# Altium schematic symbol library IC.SchLib: 18 symbols
Pins are listed as number, name and electrical type; pins without a type are passive.

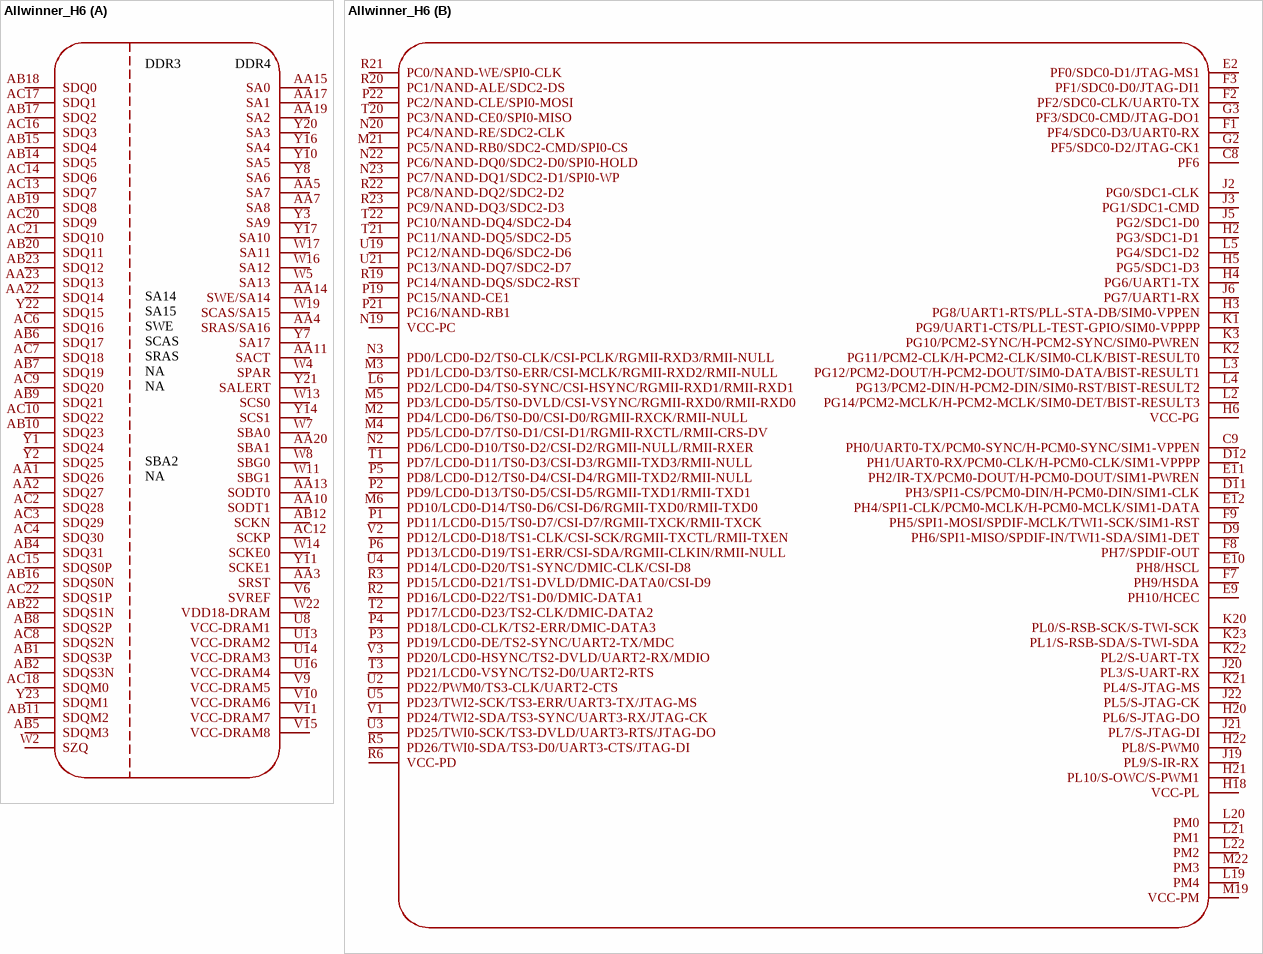
[diagram p0: symbol Allwinner_H6]

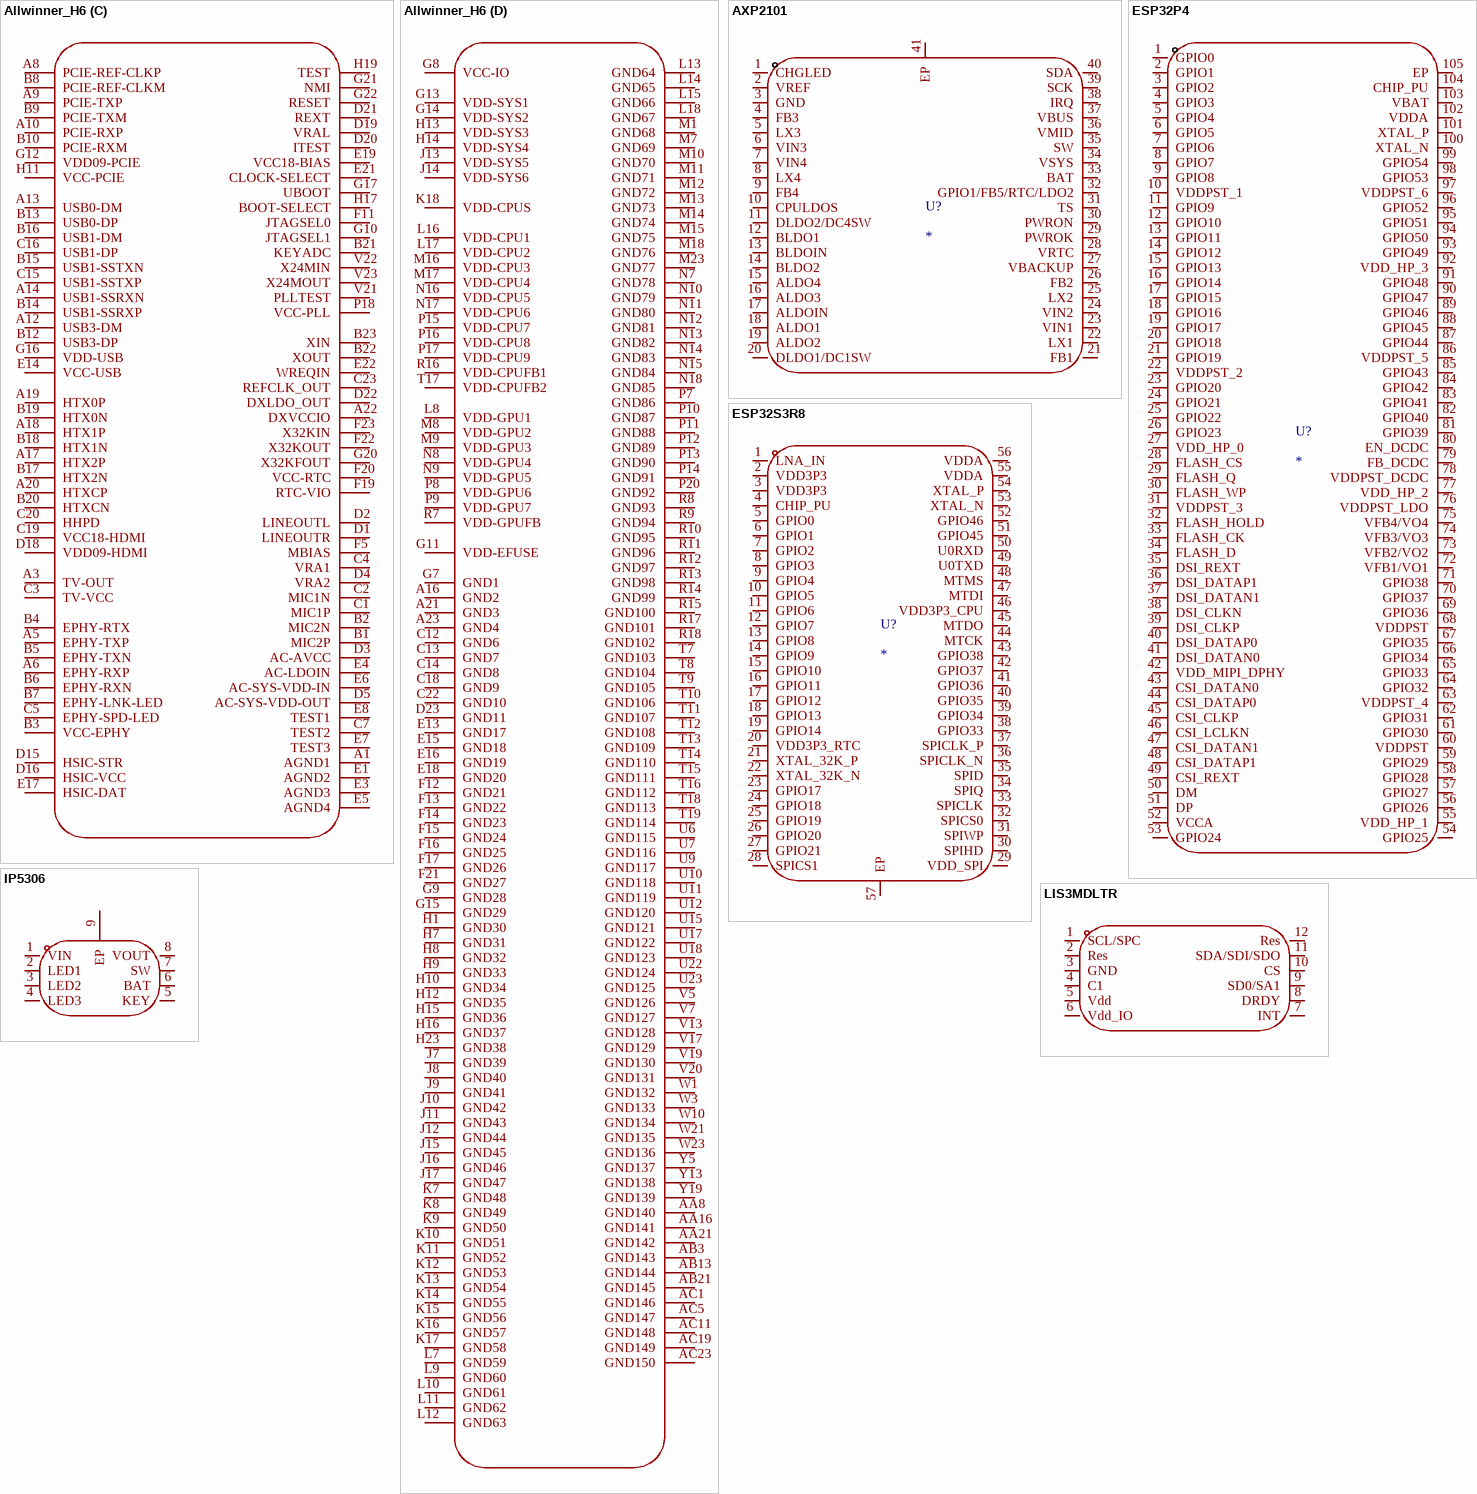
[diagram p1: symbols Allwinner_H6 to LIS3MDLTR]

## Allwinner_H6
designator U??
Symbol: Allwinner_H6; Add into BOM: yes; Device: Allwinner_H6; Convert to PCB: yes
footprint BGA451_ALLWINNER_H6
part A pins: AA1 SDQ26, AA2 SDQ27, AA3 SRST, AA4 SRAS/SA16, AA5 SA7, AA7 SA8, AA10 SODT1, AA11 SACT, AA13 SODT0, AA14 SWE/SA14, AA15 SA0, AA17 SA1, AA19 SA2, AA20 SBA1, AA22 SDQ14, AA23 SDQ13, AB1 SDQS3P, AB2 SDQS3N, AB4 SDQ31, AB5 SDQM3, AB6 SDQ17, AB7 SDQ19, AB8 SDQS2P, AB9 SDQ21, AB10 SDQ23, AB11 SDQM2, AB12 SCKN, AB14 SDQ5, AB15 SDQ4, AB16 SDQS0N, AB17 SDQ2, AB18 SDQ0, AB19 SDQ8, AB20 SDQ11, AB22 SDQS1N, AB23 SDQ12, AC2 SDQ28, AC3 SDQ29, AC4 SDQ30, AC6 SDQ16, AC7 SDQ18, AC8 SDQS2N, AC9 SDQ20, AC10 SDQ22, AC12 SCKP, AC13 SDQ7, AC14 SDQ6, AC15 SDQS0P, AC16 SDQ3, AC17 SDQ1, AC18 SDQM0, AC20 SDQ9, AC21 SDQ10, AC22 SDQS1P, U8 VCC-DRAM1, U13 VCC-DRAM2, U14 VCC-DRAM3, U16 VCC-DRAM4, V6 SVREF, V9 VCC-DRAM5, V10 VCC-DRAM6, V11 VCC-DRAM7, V15 VCC-DRAM8, W2 SZQ, W4 SPAR, W5 SA13, W7 SBA0, W8 SBG0, W11 SBG1, W13 SCS0, W14 SCKE0, W16 SA12, W17 SA11, W19 SCAS/SA15, W22 VDD18-DRAM, Y1 SDQ24, Y2 SDQ25, Y3 SA9, Y7 SA17, Y8 SA6, Y10 SA5, Y11 SCKE1, Y14 SCS1, Y16 SA4, Y17 SA10, Y20 SA3, Y21 SALERT, Y22 SDQ15, Y23 SDQM1
part B pins: C8 PF6, C9 PH0/UART0-TX/PCM0-SYNC/H-PCM0-SYNC/SIM1-VPPEN, D9 PH6/SPI1-MISO/SPDIF-IN/TWI1-SDA/SIM1-DET, D11 PH3/SPI1-CS/PCM0-DIN/H-PCM0-DIN/SIM1-CLK, D12 PH1/UART0-RX/PCM0-CLK/H-PCM0-CLK/SIM1-VPPPP, E2 PF0/SDC0-D1/JTAG-MS1, E9 PH10/HCEC, E10 PH8/HSCL, E11 PH2/IR-TX/PCM0-DOUT/H-PCM0-DOUT/SIM1-PWREN, E12 PH4/SPI1-CLK/PCM0-MCLK/H-PCM0-MCLK/SIM1-DATA, F1 PF4/SDC0-D3/UART0-RX, F2 PF2/SDC0-CLK/UART0-TX, F3 PF1/SDC0-D0/JTAG-DI1, F7 PH9/HSDA, F8 PH7/SPDIF-OUT, F9 PH5/SPI1-MOSI/SPDIF-MCLK/TWI1-SCK/SIM1-RST, G2 PF5/SDC0-D2/JTAG-CK1, G3 PF3/SDC0-CMD/JTAG-DO1, H2 PG3/SDC1-D1, H3 PG8/UART1-RTS/PLL-STA-DB/SIM0-VPPEN, H4 PG6/UART1-TX, H5 PG5/SDC1-D3, H6 VCC-PG, H18 VCC-PL, H20 PL6/S-JTAG-DO, H21 PL10/S-OWC/S-PWM1, H22 PL8/S-PWM0, J2 PG0/SDC1-CLK, J3 PG1/SDC1-CMD, J5 PG2/SDC1-D0, J6 PG7/UART1-RX, J19 PL9/S-IR-RX, J20 PL3/S-UART-RX, J21 PL7/S-JTAG-DI, J22 PL5/S-JTAG-CK, K1 PG9/UART1-CTS/PLL-TEST-GPIO/SIM0-VPPPP, K2 PG11/PCM2-CLK/H-PCM2-CLK/SIM0-CLK/BIST-RESULT0, K3 PG10/PCM2-SYNC/H-PCM2-SYNC/SIM0-PWREN, K20 PL0/S-RSB-SCK/S-TWI-SCK, K21 PL4/S-JTAG-MS, K22 PL2/S-UART-TX, K23 PL1/S-RSB-SDA/S-TWI-SDA, L2 PG14/PCM2-MCLK/H-PCM2-MCLK/SIM0-DET/BIST-RESULT3, L3 PG12/PCM2-DOUT/H-PCM2-DOUT/SIM0-DATA/BIST-RESULT1, L4 PG13/PCM2-DIN/H-PCM2-DIN/SIM0-RST/BIST-RESULT2, L5 PG4/SDC1-D2, L6 PD2/LCD0-D4/TS0-SYNC/CSI-HSYNC/RGMII-RXD1/RMII-RXD1, L19 PM4, L20 PM0, L21 PM1, L22 PM2, M2 PD4/LCD0-D6/TS0-D0/CSI-D0/RGMII-RXCK/RMII-NULL, M3 PD1/LCD0-D3/TS0-ERR/CSI-MCLK/RGMII-RXD2/RMII-NULL, M4 PD5/LCD0-D7/TS0-D1/CSI-D1/RGMII-RXCTL/RMII-CRS-DV, M5 PD3/LCD0-D5/TS0-DVLD/CSI-VSYNC/RGMII-RXD0/RMII-RXD0, M6 PD10/LCD0-D14/TS0-D6/CSI-D6/RGMII-TXD0/RMII-TXD0, M19 VCC-PM, M21 PC5/NAND-RB0/SDC2-CMD/SPI0-CS, M22 PM3, N2 PD6/LCD0-D10/TS0-D2/CSI-D2/RGMII-NULL/RMII-RXER, N3 PD0/LCD0-D2/TS0-CLK/CSI-PCLK/RGMII-RXD3/RMII-NULL, N19 VCC-PC, N20 PC4/NAND-RE/SDC2-CLK, N22 PC6/NAND-DQ0/SDC2-D0/SPI0-HOLD, N23 PC7/NAND-DQ1/SDC2-D1/SPI0-WP, P1 PD11/LCD0-D15/TS0-D7/CSI-D7/RGMII-TXCK/RMII-TXCK, P2 PD9/LCD0-D13/TS0-D5/CSI-D5/RGMII-TXD1/RMII-TXD1, P3 PD19/LCD0-DE/TS2-SYNC/UART2-TX/MDC, P4 PD18/LCD0-CLK/TS2-ERR/DMIC-DATA3, P5 PD8/LCD0-D12/TS0-D4/CSI-D4/RGMII-TXD2/RMII-NULL, P6 PD13/LCD0-D19/TS1-ERR/CSI-SDA/RGMII-CLKIN/RMII-NULL, P19 PC15/NAND-CE1, P21 PC16/NAND-RB1, P22 PC2/NAND-CLE/SPI0-MOSI, R2 PD16/LCD0-D22/TS1-D0/DMIC-DATA1, R3 PD15/LCD0-D21/TS1-DVLD/DMIC-DATA0/CSI-D9, R5 PD26/TWI0-SDA/TS3-D0/UART3-CTS/JTAG-DI, R6 VCC-PD, R19 PC14/NAND-DQS/SDC2-RST, R20 PC1/NAND-ALE/SDC2-DS, R21 PC0/NAND-WE/SPI0-CLK, R22 PC8/NAND-DQ2/SDC2-D2, R23 PC9/NAND-DQ3/SDC2-D3, T1 PD7/LCD0-D11/TS0-D3/CSI-D3/RGMII-TXD3/RMII-NULL, T2 PD17/LCD0-D23/TS2-CLK/DMIC-DATA2, T3 PD21/LCD0-VSYNC/TS2-D0/UART2-RTS, T20 PC3/NAND-CE0/SPI0-MISO, T21 PC11/NAND-DQ5/SDC2-D5, T22 PC10/NAND-DQ4/SDC2-D4, U2 PD22/PWM0/TS3-CLK/UART2-CTS, U3 PD25/TWI0-SCK/TS3-DVLD/UART3-RTS/JTAG-DO, U4 PD14/LCD0-D20/TS1-SYNC/DMIC-CLK/CSI-D8, U5 PD23/TWI2-SCK/TS3-ERR/UART3-TX/JTAG-MS, U19 PC12/NAND-DQ6/SDC2-D6, U21 PC13/NAND-DQ7/SDC2-D7, V1 PD24/TWI2-SDA/TS3-SYNC/UART3-RX/JTAG-CK, V2 PD12/LCD0-D18/TS1-CLK/CSI-SCK/RGMII-TXCTL/RMII-TXEN, V3 PD20/LCD0-HSYNC/TS2-DVLD/UART2-RX/MDIO
part C pins: A1 AGND1, A3 TV-OUT, A5 EPHY-TXP, A6 EPHY-RXP, A8 PCIE-REF-CLKP, A9 PCIE-TXP, A10 PCIE-RXP, A12 USB3-DM, A13 USB0-DM, A14 USB1-SSRXN, A17 HTX2P, A18 HTX1P, A19 HTX0P, A20 HTXCP, A22 DXVCCIO, B1 MIC2P, B2 MIC2N, B3 VCC-EPHY, B4 EPHY-RTX, B5 EPHY-TXN, B6 EPHY-RXN, B7 EPHY-LNK-LED, B8 PCIE-REF-CLKM, B9 PCIE-TXM, B10 PCIE-RXM, B12 USB3-DP, B13 USB0-DP, B14 USB1-SSRXP, B15 USB1-SSTXN, B16 USB1-DM, B17 HTX2N, B18 HTX1N, B19 HTX0N, B20 HTXCN, B21 KEYADC, B22 XOUT, B23 XIN, C1 MIC1P, C2 MIC1N, C3 TV-VCC, C4 VRA1, C5 EPHY-SPD-LED, C7 TEST2, C15 USB1-SSTXP, C16 USB1-DP, C19 VCC18-HDMI, C20 HHPD, C23 REFCLK_OUT, D1 LINEOUTR, D2 LINEOUTL, D3 AC-AVCC, D4 VRA2, D5 AC-SYS-VDD-OUT, D15 HSIC-STR, D16 HSIC-VCC, D18 VDD09-HDMI, D19 VRAL, D20 ITEST, D21 REXT, D22 DXLDO_OUT, E1 AGND2, E3 AGND3, E4 AC-LDOIN, E5 AGND4, E6 AC-SYS-VDD-IN, E7 TEST3, E8 TEST1, E14 VCC-USB, E17 HSIC-DAT, E19 VCC18-BIAS, E21 CLOCK-SELECT, E22 WREQIN, F5 MBIAS, F11 JTAGSEL0, F19 RTC-VIO, F20 VCC-RTC, F22 X32KOUT, F23 X32KIN, G10 JTAGSEL1, G12 VDD09-PCIE, G16 VDD-USB, G17 UBOOT, G20 X32KFOUT, G21 NMI, G22 RESET, H11 VCC-PCIE, H17 BOOT-SELECT, H19 TEST, P18 VCC-PLL, V21 PLLTEST, V22 X24MIN, V23 X24MOUT
part D pins: A16 GND2, A21 GND3, A23 GND4, AA8 GND140, AA16 GND141, AA21 GND142, AB3 GND143, AB13 GND144, AB21 GND145, AC1 GND146, AC5 GND147, AC11 GND148, AC19 GND149, AC23 GND150, C12 GND6, C13 GND7, C14 GND8, C18 GND9, C22 GND10, D23 GND11, E13 GND17, E15 GND18, E16 GND19, E18 GND20, F12 GND21, F13 GND22, F14 GND23, F15 GND24, F16 GND25, F17 GND26, F21 GND27, G7 GND1, G8 VCC-IO, G9 GND28, G11 VDD-EFUSE, G13 VDD-SYS1, G14 VDD-SYS2, G15 GND29, H1 GND30, H7 GND31, H8 GND32, H9 GND33, H10 GND34, H12 GND35, H13 VDD-SYS3, H14 VDD-SYS4, H15 GND36, H16 GND37, H23 GND38, J7 GND39, J8 GND40, J9 GND41, J10 GND42, J11 GND43, J12 GND44, J13 VDD-SYS5, J14 VDD-SYS6, J15 GND45, J16 GND46, J17 GND47, K7 GND48, K8 GND49, K9 GND50, K10 GND51, K11 GND52, K12 GND53, K13 GND54, K14 GND55, K15 GND56, K16 GND57, K17 GND58, K18 VDD-CPUS, L7 GND59, L8 VDD-GPU1, L9 GND60, L10 GND61, L11 GND62, L12 GND63, L13 GND64, L14 GND65, L15 GND66, L16 VDD-CPU1, L17 VDD-CPU2, L18 GND67, M1 GND68, M7 GND69, M8 VDD-GPU2, M9 VDD-GPU3, M10 GND70, M11 GND71, M12 GND72, M13 GND73, M14 GND74, M15 GND75, M16 VDD-CPU3, M17 VDD-CPU4, M18 GND76, M23 GND77, N7 GND78, N8 VDD-GPU4, N9 VDD-GPU5, N10 GND79, N11 GND80, N12 GND81, N13 GND82, N14 GND83, N15 GND84, N16 VDD-CPU5, N17 VDD-CPU6, N18 GND85, P7 GND86, P8 VDD-GPU6, P9 VDD-GPU7, P10 GND87, P11 GND88, P12 GND89, P13 GND90, P14 GND91, P15 VDD-CPU7, P16 VDD-CPU8, P17 VDD-CPU9, P20 GND92, R7 VDD-GPUFB, R8 GND93, R9 GND94, R10 GND95, R11 GND96, R12 GND97, R13 GND98, R14 GND99, R15 GND100, R16 VDD-CPUFB1, R17 GND101, R18 GND102, T7 GND103, T8 GND104, T9 GND105, T10 GND106, T11 GND107, T12 GND108, T13 GND109, T14 GND110, T15 GND111, T16 GND112, T17 VDD-CPUFB2, T18 GND113, T19 GND114, U6 GND115, U7 GND116, U9 GND117, U10 GND118, U11 GND119, U12 GND120, U15 GND121, U17 GND122, U18 GND123, U22 GND124, U23 GND125, V5 GND126, V7 GND127, V13 GND128, V17 GND129, V19 GND130, V20 GND131, W1 GND132, W3 GND133, W10 GND134, W21 GND135, W23 GND136, Y5 GND137, Y13 GND138, Y19 GND139
part A text: DDR3; DDR4; SA14; SA15; SWE; SCAS; SRAS; NA; SBA2

## AXP2101
designator U?
footprint QFN-40_L5.0-W5.0-P0.40-TL-EP3.4
pins: 1 CHGLED, 2 VREF, 3 GND, 4 FB3, 5 LX3, 6 VIN3, 7 VIN4, 8 LX4, 9 FB4, 10 CPULDOS, 11 DLDO2/DC4SW, 12 BLDO1, 13 BLDOIN, 14 BLDO2, 15 ALDO4, 16 ALDO3, 17 ALDOIN, 18 ALDO1, 19 ALDO2, 20 DLDO1/DC1SW, 21 FB1, 22 LX1, 23 VIN1, 24 VIN2, 25 LX2, 26 FB2, 27 VBACKUP, 28 VRTC, 29 PWROK, 30 PWRON, 31 TS, 32 GPIO1/FB5/RTC/LDO2, 33 BAT, 34 VSYS, 35 SW, 36 VMID, 37 VBUS, 38 IRQ, 39 SCK, 40 SDA, 41 EP

## ESP32P4
designator U?
footprint QFN-104_L10.0-W10.0-P0.35-TL-EP7.5
pins: 1 GPIO0, 2 GPIO1, 3 GPIO2, 4 GPIO3, 5 GPIO4, 6 GPIO5, 7 GPIO6, 8 GPIO7, 9 GPIO8, 10 VDDPST_1, 11 GPIO9, 12 GPIO10, 13 GPIO11, 14 GPIO12, 15 GPIO13, 16 GPIO14, 17 GPIO15, 18 GPIO16, 19 GPIO17, 20 GPIO18, 21 GPIO19, 22 VDDPST_2, 23 GPIO20, 24 GPIO21, 25 GPIO22, 26 GPIO23, 27 VDD_HP_0, 28 FLASH_CS, 29 FLASH_Q, 30 FLASH_WP, 31 VDDPST_3, 32 FLASH_HOLD, 33 FLASH_CK, 34 FLASH_D, 35 DSI_REXT, 36 DSI_DATAP1, 37 DSI_DATAN1, 38 DSI_CLKN, 39 DSI_CLKP, 40 DSI_DATAP0, 41 DSI_DATAN0, 42 VDD_MIPI_DPHY, 43 CSI_DATAN0, 44 CSI_DATAP0, 45 CSI_CLKP, 46 CSI_LCLKN, 47 CSI_DATAN1, 48 CSI_DATAP1, 49 CSI_REXT, 50 DM, 51 DP, 52 VCCA, 53 GPIO24, 54 GPIO25, 55 VDD_HP_1, 56 GPIO26, 57 GPIO27, 58 GPIO28, 59 GPIO29, 60 VDDPST, 61 GPIO30, 62 GPIO31, 63 VDDPST_4, 64 GPIO32, 65 GPIO33, 66 GPIO34, 67 GPIO35, 68 VDDPST, 69 GPIO36, 70 GPIO37, 71 GPIO38, 72 VFB1/VO1, 73 VFB2/VO2, 74 VFB3/VO3, 75 VFB4/VO4, 76 VDDPST_LDO, 77 VDD_HP_2, 78 VDDPST_DCDC, 79 FB_DCDC, 80 EN_DCDC, 81 GPIO39, 82 GPIO40, 83 GPIO41, 84 GPIO42, 85 GPIO43, 86 VDDPST_5, 87 GPIO44, 88 GPIO45, 89 GPIO46, 90 GPIO47, 91 GPIO48, 92 VDD_HP_3, 93 GPIO49, 94 GPIO50, 95 GPIO51, 96 GPIO52, 97 VDDPST_6, 98 GPIO53, 99 GPIO54, 100 XTAL_N, 101 XTAL_P, 102 VDDA, 103 VBAT, 104 CHIP_PU, 105 EP

## ESP32S3R8
designator U?
footprint QFN-56_L7.0-W7.0-P0.40-TL-EP4.0
pins: 1 LNA_IN, 2 VDD3P3, 3 VDD3P3, 4 CHIP_PU, 5 GPIO0, 6 GPIO1, 7 GPIO2, 8 GPIO3, 9 GPIO4, 10 GPIO5, 11 GPIO6, 12 GPIO7, 13 GPIO8, 14 GPIO9, 15 GPIO10, 16 GPIO11, 17 GPIO12, 18 GPIO13, 19 GPIO14, 20 VDD3P3_RTC, 21 XTAL_32K_P, 22 XTAL_32K_N, 23 GPIO17, 24 GPIO18, 25 GPIO19, 26 GPIO20, 27 GPIO21, 28 SPICS1, 29 VDD_SPI, 30 SPIHD, 31 SPIWP, 32 SPICS0, 33 SPICLK, 34 SPIQ, 35 SPID, 36 SPICLK_N, 37 SPICLK_P, 38 GPIO33, 39 GPIO34, 40 GPIO35, 41 GPIO36, 42 GPIO37, 43 GPIO38, 44 MTCK, 45 MTDO, 46 VDD3P3_CPU, 47 MTDI, 48 MTMS, 49 U0TXD, 50 U0RXD, 51 GPIO45, 52 GPIO46, 53 XTAL_N, 54 XTAL_P, 55 VDDA, 56 VDDA, 57 EP

## IP5306
designator U??  (value not drawn)
Manufacturer: INJOINIC(英集芯); Add into BOM: yes; Symbol: IP5306; Device: IP5306; LCSC Part Name: IP5306; Supplier Part: C181692; Manufacturer Part: IP5306; Supplier Footprint: ESOP-8; JLCPCB Part Class: Extended Part; Datasheet: https://atta.szlcsc.com/upload/public/pdf/source/20190627/C384572_9925B3DDC4041BC6108E5AB46A2A0AB1.pdf; Supplier: LCSC; Convert to PCB: yes
footprint ESOP-8_L4.9-W3.9-P1.27-LS6.0-BL-EP
pins: 1 VIN, 2 LED1, 3 LED2, 4 LED3, 5 KEY, 6 BAT, 7 SW, 8 VOUT, 9 EP

## LIS3MDLTR
designator U??  (value not drawn)
Manufacturer: ST(意法半导体); Add into BOM: yes; Symbol: LIS3MDLTR; Device: LIS3MDLTR; LCSC Part Name: 三轴数字磁传感器 停产; Supplier Part: C478483; Manufacturer Part: LIS3MDLTR; Supplier Footprint: LGA-12(2x2); JLCPCB Part Class: Extended Part; Datasheet: https://atta.szlcsc.com/upload/public/pdf/source/20191231/C478483_325C07DDDEF2D93C2E541FB70AD6AC5C.pdf; Supplier: LCSC; Convert to PCB: yes
footprint LGA-12_L2.0-W2.0-P0.50-BL
pins: 1 SCL/SPC, 2 Res, 3 GND, 4 C1, 5 Vdd, 6 Vdd_IO, 7 INT, 8 DRDY, 9 SD0/SA1, 10 CS, 11 SDA/SDI/SDO, 12 Res

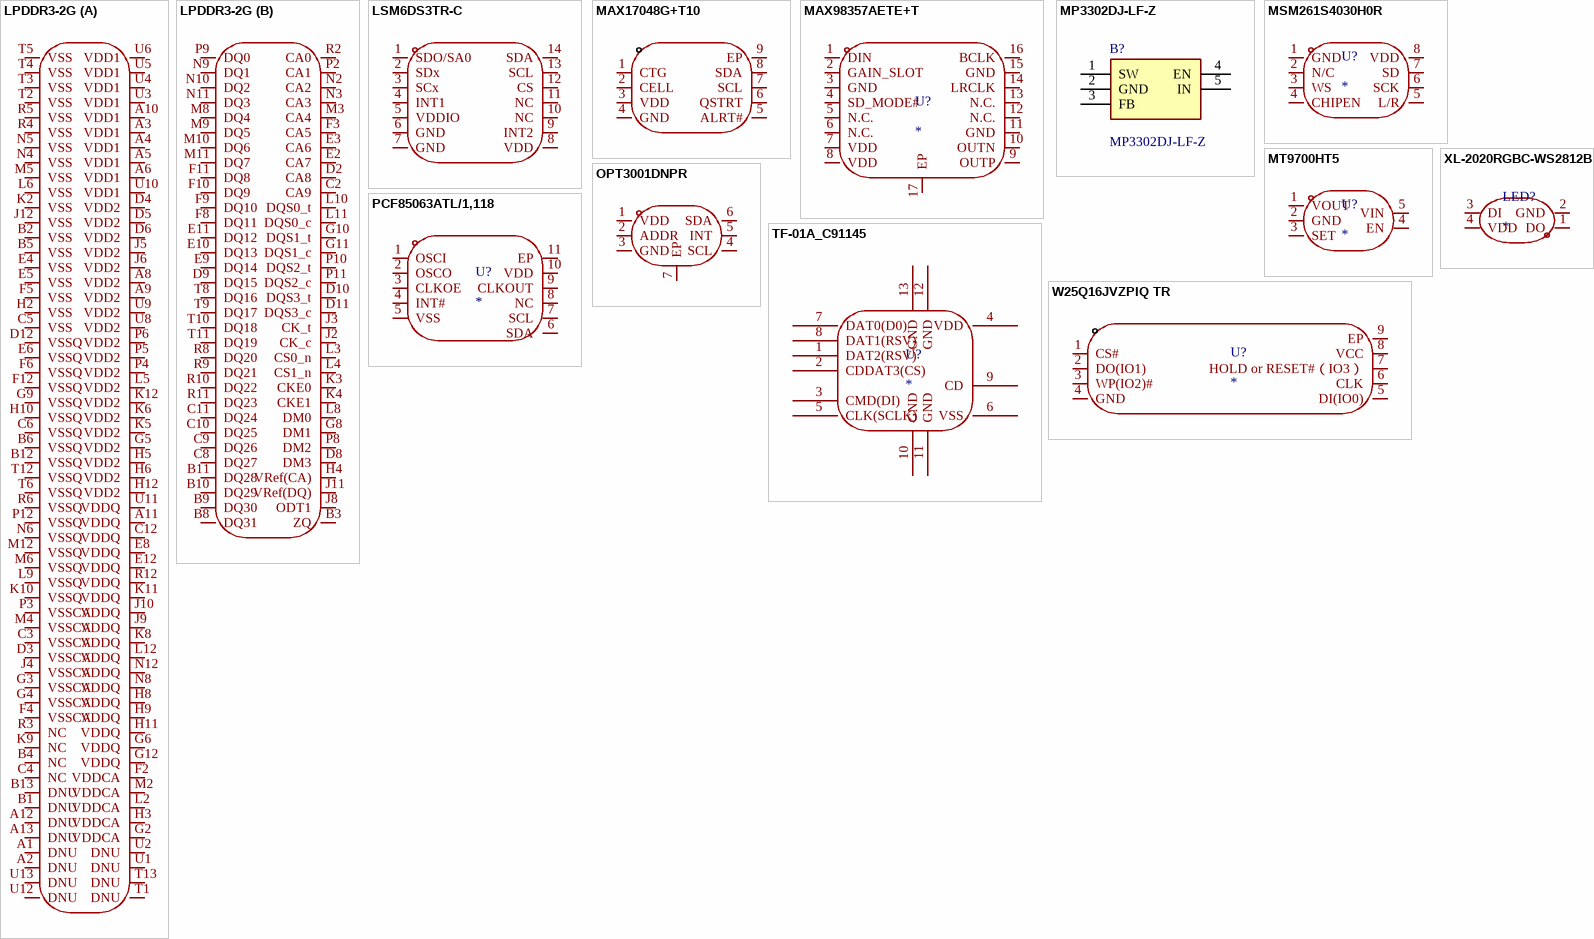
[diagram p2: symbols LPDDR3-2G to XL-2020RGBC-WS2812B]

## LPDDR3-2G
designator U??
Manufacturer: SAMSUNG(三星半导体); Symbol: K4E6E304EC-EGCG; Device: LPDDR3-2G; Add into BOM: yes; LCSC Part Name: K4E6E304EC-EGCG; Supplier Part: C2803256; Manufacturer Part: K4E6E304EC-EGCG; Supplier Footprint: SMD; JLCPCB Part Class: 扩展库; Datasheet: https://atta.szlcsc.comnull; Supplier: LCSC; Convert to PCB: yes
footprint FBGA-178_L11.5-W11.0_K4E6E304EC-TL
part A pins: A1 DNU, A2 DNU, A3 VDD1, A4 VDD1, A5 VDD1, A6 VDD1, A8 VDD2, A9 VDD2, A10 VDD1, A11 VDDQ, A12 DNU, A13 DNU, B1 DNU, B2 VSS, B4 NC, B5 VSS, B6 VSSQ, B12 VSSQ, B13 DNU, C3 VSSCA, C4 NC, C5 VSS, C6 VSSQ, C12 VDDQ, D3 VSSCA, D4 VDD2, D5 VDD2, D6 VDD2, D12 VSSQ, E4 VSS, E5 VSS, E6 VSSQ, E8 VDDQ, E12 VDDQ, F2 VDDCA, F4 VSSCA, F5 VSS, F6 VSSQ, F12 VSSQ, G2 VDDCA, G3 VSSCA, G4 VSSCA, G5 VDD2, G6 VDDQ, G9 VSSQ, G12 VDDQ, H2 VSS, H3 VDDCA, H5 VDD2, H6 VDD2, H8 VDDQ, H9 VDDQ, H10 VSSQ, H11 VDDQ, H12 VDD2, J4 VSSCA, J5 VDD2, J6 VDD2, J9 VDDQ, J10 VDDQ, J12 VSS, K2 VSS, K5 VDD2, K6 VDD2, K8 VDDQ, K9 NC, K10 VSSQ, K11 VDDQ, K12 VDD2, L2 VDDCA, L5 VDD2, L6 VSS, L9 VSSQ, L12 VDDQ, M2 VDDCA, M4 VSSCA, M5 VSS, M6 VSSQ, M12 VSSQ, N4 VSS, N5 VSS, N6 VSSQ, N8 VDDQ, N12 VDDQ, P3 VSSCA, P4 VDD2, P5 VDD2, P6 VDD2, P12 VSSQ, R3 NC, R4 VSS, R5 VSS, R6 VSSQ, R12 VDDQ, T1 DNU, T2 VSS, T3 VSS, T4 VSS, T5 VSS, T6 VSSQ, T12 VSSQ, T13 DNU, U1 DNU, U2 DNU, U3 VDD1, U4 VDD1, U5 VDD1, U6 VDD1, U8 VDD2, U9 VDD2, U10 VDD1, U11 VDDQ, U12 DNU, U13 DNU
part B pins: B3 ZQ, B8 DQ31, B9 DQ30, B10 DQ29, B11 DQ28, C2 CA9, C8 DQ27, C9 DQ26, C10 DQ25, C11 DQ24, D2 CA8, D8 DM3, D9 DQ15, D10 DQS3_t, D11 DQS3_c, E2 CA7, E3 CA6, E9 DQ14, E10 DQ13, E11 DQ12, F3 CA5, F8 DQ11, F9 DQ10, F10 DQ9, F11 DQ8, G8 DM1, G10 DQS1_t, G11 DQS1_c, H4 VRef(CA), J2 CK_c, J3 CK_t, J8 ODT1, J11 VRef(DQ), K3 CKE0, K4 CKE1, L3 CS0_n, L4 CS1_n, L8 DM0, L10 DQS0_t, L11 DQS0_c, M3 CA4, M8 DQ4, M9 DQ5, M10 DQ6, M11 DQ7, N2 CA2, N3 CA3, N9 DQ1, N10 DQ2, N11 DQ3, P2 CA1, P8 DM2, P9 DQ0, P10 DQS2_t, P11 DQS2_c, R2 CA0, R8 DQ20, R9 DQ21, R10 DQ22, R11 DQ23, T8 DQ16, T9 DQ17, T10 DQ18, T11 DQ19

## LSM6DS3TR-C
designator U??  (value not drawn)
Manufacturer: ST(意法半导体); Add into BOM: yes; Sensor Type: Accelerometer gyroscope; Symbol: LSM6DS3TR-C; Device: LSM6DS3TR-C; LCSC Part Name: IMU-惯性测量单元; Supplier Part: C967633; Manufacturer Part: LSM6DS3TR-C; Supplier Footprint: LGA-14(2.5x3); JLCPCB Part Class: Extended Part; Datasheet: https://atta.szlcsc.com/upload/public/pdf/source/20210226/C967633_4D8B3A108D63359423D57B97CE5134B1.pdf; Supplier: LCSC; Convert to PCB: yes; Operating Temperature: -40℃~+85℃
footprint LGA-14_L3.0-W2.5-P0.50-TL
pins: 1 SDO/SA0, 2 SDx, 3 SCx, 4 INT1, 5 VDDIO, 6 GND, 7 GND, 8 VDD, 9 INT2, 10 NC, 11 NC, 12 CS, 13 SCL, 14 SDA

## MAX17048G+T10
designator U??  (value not drawn)
Manufacturer: ADI(亚德诺)/MAXIM(美信); Add into BOM: yes; The Chip Type: Battery monitoring chip; Voltage - Supply: 2.5V~4.5V; Type of Battery: Lithium-ion/Polymer; Number of Cells: 1; Symbol: MAX17048G+T10; Device: MAX17048G+T10; LCSC Part Name: 单节/双节电池电量计使用ModelGauge技术; Supplier Part: C2682616; Manufacturer Part: MAX17048G+T10; Supplier Footprint: DFN-8-EP(2x2); JLCPCB Part Class: Extended Part; Datasheet: https://atta.szlcsc.com/upload/public/pdf/source/20210106/C2682616_818568B5D3BA4B627110FCAA33E0BFB1.pdf; Supplier: LCSC; Convert to PCB: yes; Operating Temperature: -40℃~+85℃
footprint TDFN-8_L2.0-W2.0-P0.50-BL-EP1.2
pins: 1 CTG, 2 CELL, 3 VDD, 4 GND, 5 ALRT#, 6 QSTRT, 7 SCL, 8 SDA, 9 EP

## MAX98357AETE+T
designator U?
footprint TQFN-16_L3.0-W3.0-P0.50-BL-EP1.5
pins: 1 DIN, 2 GAIN_SLOT, 3 GND, 4 SD_MODE#, 5 N.C., 6 N.C., 7 VDD, 8 VDD, 9 OUTP, 10 OUTN, 11 GND, 12 N.C., 13 N.C., 14 LRCLK, 15 GND, 16 BCLK, 17 EP

## MP3302DJ-LF-Z
designator B?
LED Lighting Drivers 1.3A, 1.3MHz WLED Driver; Manufacturer_Name: Monolithic Power Systems (MPS); Geometry.Height: 1mm; Mouser Part Number: 946-MP3302DJLFZ; Mouser Price/Stock: https://www.mouser.co.uk/ProductDetail/Monolithic-Power-Systems-MPS/MP3302DJ-LF-Z?qs=rC7bBWoQAAmgkwFvMFHCAg%3D%3D; Manufacturer_Part_Number: MP3302DJ-LF-Z; Datasheet Link: https://componentsearchengine.com/Datasheets/1/MP3302DJ-LF-Z.pdf
footprint SOT95P280X100-5N
footprint SOT95P280X100-5N
pins: 1 SW, 2 GND, 3 FB, 4 EN, 5 IN

## MSM261S4030H0R
designator U?
footprint MIC-SMD_8P-L4.0-W3.0-P1.00-BR
pins: 1 GND, 2 N/C, 3 WS, 4 CHIPEN, 5 L/R, 6 SCK, 7 SD, 8 VDD

## MT9700HT5
designator U?
footprint SOT-23-5_L3.0-W1.7-P0.95-LS2.8-BL
pins: 1 VOUT, 2 GND, 3 SET, 4 EN, 5 VIN

## OPT3001DNPR
designator U??  (value not drawn)
Manufacturer: TI(德州仪器); Add into BOM: yes; Symbol: OPT3001DNPR; Device: OPT3001DNPR; LCSC Part Name: OPT3001DNPR; Supplier Part: C90462; Manufacturer Part: OPT3001DNPR; Supplier Footprint: USON-6-EP(2.1x2.1); JLCPCB Part Class: Extended Part; Datasheet: https://www.ti.com/cn/lit/gpn/opt3001; Supplier: LCSC; Convert to PCB: yes
footprint USON6_L2.1-W2.1-P0.65-BL-EP
pins: 1 VDD, 2 ADDR, 3 GND, 4 SCL, 5 INT, 6 SDA, 7 EP

## PCF85063ATL/1,118
designator U?
footprint DFN-10_L2.6-W2.6-P0.50-BL-EP
pins: 1 OSCI, 2 OSCO, 3 CLKOE, 4 INT#, 5 VSS, 6 SDA, 7 SCL, 8 NC, 9 CLKOUT, 10 VDD, 11 EP

## TF-01A_C91145
designator U?
footprint TF-SMD_TF-01A
pins: 1 DAT2(RSV), 2 CDDAT3(CS), 3 CMD(DI), 4 VDD, 5 CLK(SCLK), 6 VSS, 7 DAT0(D0), 8 DAT1(RSV), 9 CD, 10 GND, 11 GND, 12 GND, 13 GND

## W25Q16JVZPIQ TR
designator U?
footprint WSON-8_L6.0-W5.0-P1.27-BL-EP
pins: 1 CS#, 2 DO(IO1), 3 WP(IO2)#, 4 GND, 5 DI(IO0), 6 CLK, 7 HOLD or RESET#（IO3）, 8 VCC, 9 EP

## XL-2020RGBC-WS2812B
designator LED?
footprint LED-SMD_4P-L2.0-W2.0-BR-1
pins: 1 DO, 2 GND, 3 DI, 4 VDD